# Altium integrated library 常用元件.IntLib: 168 symbols
Pins are listed as number, name and electrical type; pins without a type are passive.

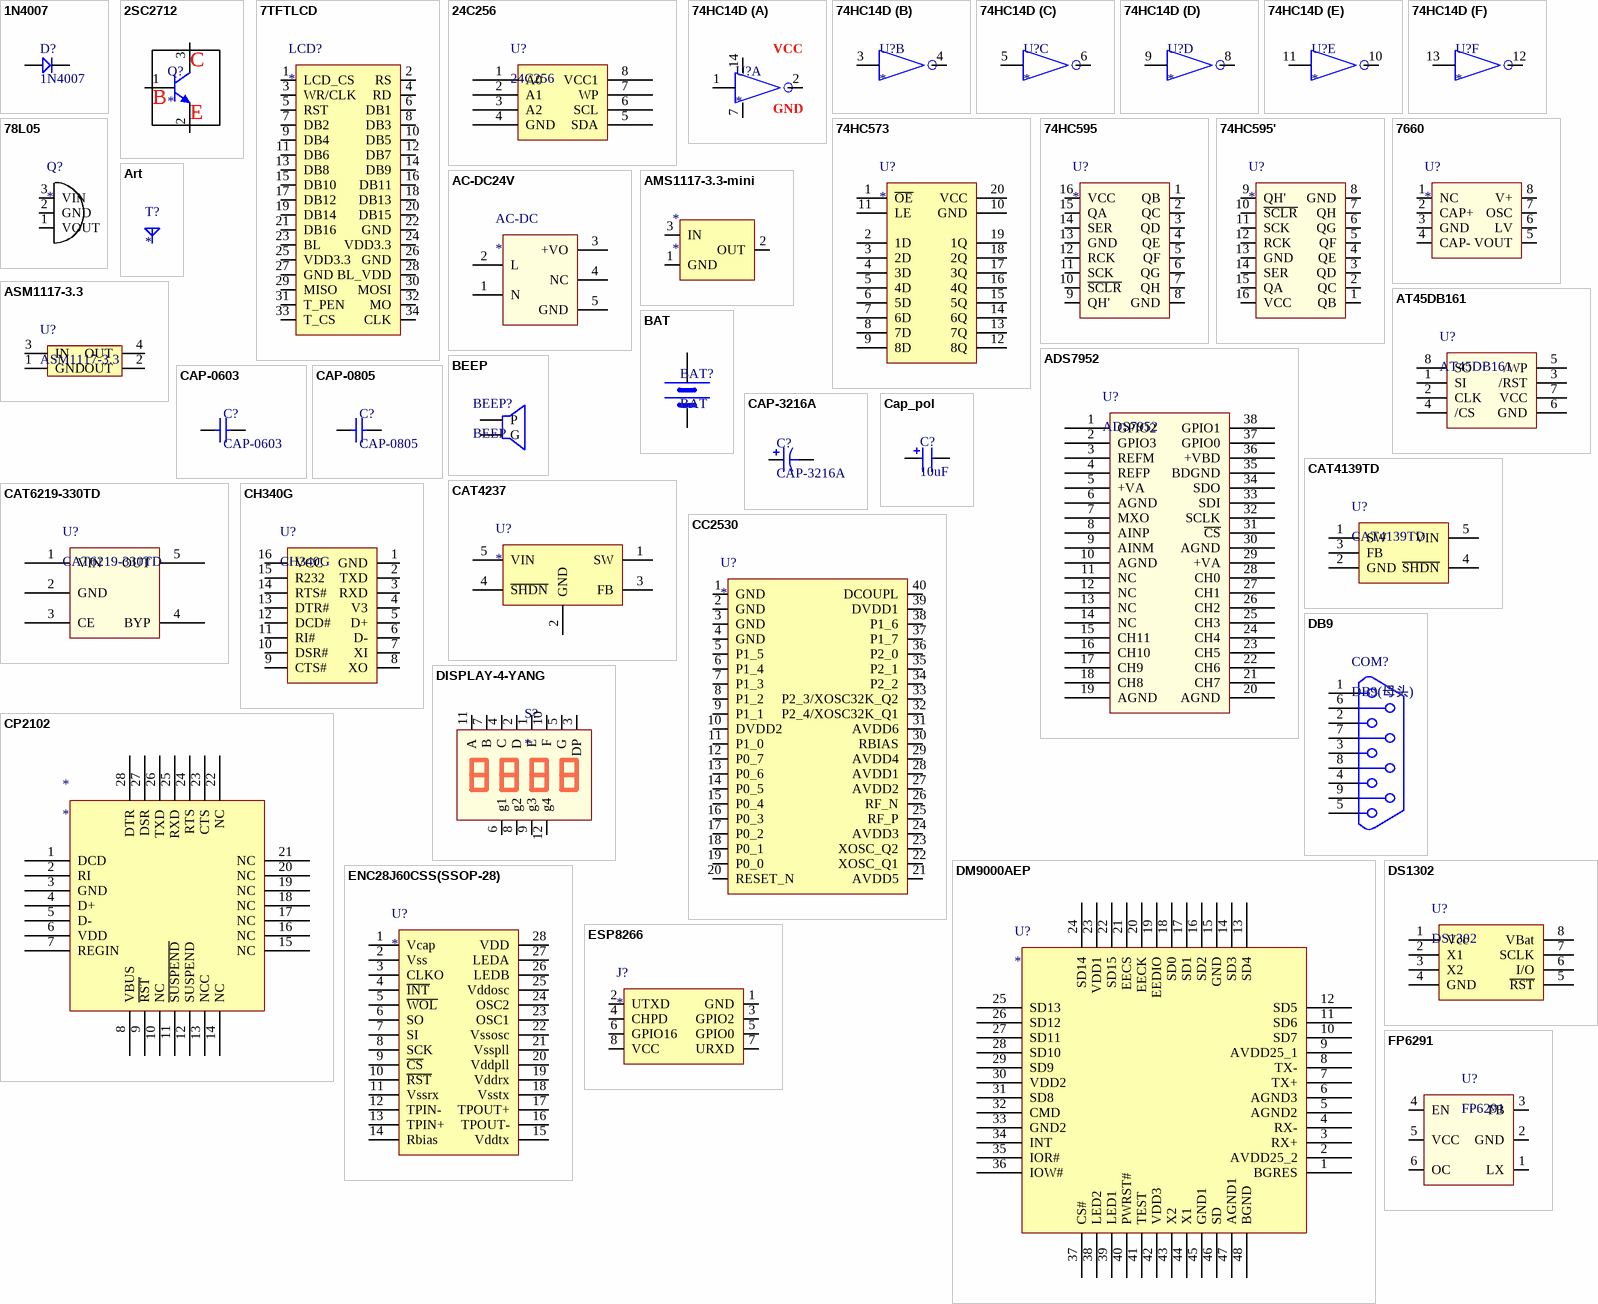
[diagram p0: symbols 1N4007 to FP6291]

## 1N4007
designator D?
footprint SMA
footprint SOD-123
footprint SMA(DO-214AC)
pins: 1, 2

## 2SC2712
designator Q?
footprint SOT-23-3L - duplicate
pins: 1 B, 2 E, 3 C

## 7TFTLCD
designator LCD?
footprint 7-LCD (正点原子7寸电容屏)
pins: 1 LCD_CS, 2 RS, 3 WR/CLK, 4 RD, 5 RST, 6 DB1, 7 DB2, 8 DB3, 9 DB4, 10 DB5, 11 DB6, 12 DB7, 13 DB8, 14 DB9, 15 DB10, 16 DB11, 17 DB12, 18 DB13, 19 DB14, 20 DB15, 21 DB16, 22 GND, 23 BL, 24 VDD3.3, 25 VDD3.3, 26 GND, 27 GND, 28 BL_VDD, 29 MISO, 30 MOSI, 31 T_PEN, 32 MO, 33 T_CS, 34 CLK

## 24C256
designator U?
EEPROM芯片
footprint SOP8
pins: 1 A0, 2 A1, 3 A2, 4 GND, 5 SDA, 6 SCL, 7 WP, 8 VCC1

## 74HC14D
designator U?
施密特反向器
footprint SOIC14_39MM
part A pins: 1, 2, 7 GND, 14 VCC
part B pins: 3, 4
part C pins: 5, 6
part D pins: 8, 9
part E pins: 10, 11
part F pins: 12, 13

## 74HC573
designator U?
锁存器
footprint TSSOP20_44MM_065P
pins: 1 ~{OE}, 2 1D, 3 2D, 4 3D, 5 4D, 6 5D, 7 6D, 8 7D, 9 8D, 10 GND, 11 LE, 12 8Q, 13 7Q, 14 6Q, 15 5Q, 16 4Q, 17 3Q, 18 2Q, 19 1Q, 20 VCC

## 74HC595
designator U?
footprint SOP16M
pins: 1 QB, 2 QC, 3 QD, 4 QE, 5 QF, 6 QG, 7 QH, 8 GND, 9 QH', 10 ~{SCLR}, 11 SCK, 12 RCK, 13 GND, 14 SER, 15 QA, 16 VCC

## 74HC595'
designator U?
footprint SOP16M
pins: 1 QB, 2 QC, 3 QD, 4 QE, 5 QF, 6 QG, 7 QH, 8 GND, 9 QH', 10 ~{SCLR}, 11 SCK, 12 RCK, 13 GND, 14 SER, 15 QA, 16 VCC

## 78L05
designator Q?
pins: 1 VOUT, 2 GND, 3 VIN

## 7660
designator U?
pins: 1 NC, 2 CAP+, 3 GND, 4 CAP-, 5 VOUT, 6 LV, 7 OSC, 8 V+

## AC-DC24V
designator AC-DC
footprint AC-DC24
footprint AC-DC24
pins: 1 N, 2 L, 3 +VO, 4 NC, 5 GND

## ADS7952
designator U?
ADC采集芯片
pins: 1 GPIO2, 2 GPIO3, 3 REFM, 4 REFP, 5 +VA, 6 AGND, 7 MXO, 8 AINP, 9 AINM, 10 AGND, 11 NC, 12 NC, 13 NC, 14 NC, 15 CH11, 16 CH10, 17 CH9, 18 CH8, 19 AGND, 20 AGND, 21 CH7, 22 CH6, 23 CH5, 24 CH4, 25 CH3, 26 CH2, 27 CH1, 28 CH0, 29 +VA, 30 AGND, 31 ~{CS}, 32 SCLK, 33 SDI, 34 SDO, 35 BDGND, 36 +VBD, 37 GPIO0, 38 GPIO1

## AMS1117-3.3-mini
designator *
footprint SOT-89-3L
pins: 1 GND, 2 OUT, 3 IN

## Art
designator T?
天线

## ASM1117-3.3
designator U?
稳压芯片
footprint ASM1117-3.3
pins: 1 GND, 2 OUT, 3 IN, 4 OUT

## AT45DB161
designator U?
FLASH存储芯片
pins: 1 SI, 2 CLK, 3 /RST, 4 /CS, 5 /WP, 6 GND, 7 VCC, 8 SO

## BAT
designator BAT?
CR1220电池座子
footprint BATM (CR1220)
pins: 1 VCC, 2 GND

## BEEP
designator BEEP?
蜂鸣器
footprint BELL-5 (蜂鸣器)
footprint BELL-12 (脚距7.6，外径12的蜂鸣器)
pins: 1 P, 2 G

## CAP-0603
designator C?
电容
footprint 0603C
pins: 1, 2

## CAP-0805
designator C?
电容
footprint 0805C
pins: 1, 2

## CAP-3216A
designator C?
贴片钽电容
footprint CASE-A_3216 (钽电容)
pins: 1, 2

## Cap_pol
designator C?, comment 10uF
直插电解电容
footprint C6*11
footprint C8*12
footprint C10*17
footprint C4*7
footprint 13*20
footprint 5*11
footprint 6.3*12
footprint CAP_4X5.4
footprint CAP_6.3X54
footprint CAP_8X10.5
footprint CASE-A_3216 (钽电容)
footprint CASE-B_3528 (钽电容)
pins: 1, 2

## CAT4139TD
designator U?
背光芯片
pins: 1 SW, 2 GND, 3 FB, 4 ~{SHDN}, 5 VIN

## CAT4237
designator U?
液晶背光电源芯片
footprint SOT-23-5L
pins: 1 SW, 2 GND, 3 FB, 4 ~{SHDN}, 5 VIN

## CAT6219-330TD
designator U?
5V转3.3V
pins: 1 VIN, 2 GND, 3 CE, 4 BYP, 5 OUT

## CC2530
designator U?
CC2530
footprint CC2530
pins: 1 GND, 2 GND, 3 GND, 4 GND, 5 P1_5, 6 P1_4, 7 P1_3, 8 P1_2, 9 P1_1, 10 DVDD2, 11 P1_0, 12 P0_7, 13 P0_6, 14 P0_5, 15 P0_4, 16 P0_3, 17 P0_2, 18 P0_1, 19 P0_0, 20 RESET_N, 21 AVDD5, 22 XOSC_Q1, 23 XOSC_Q2, 24 AVDD3, 25 RF_P, 26 RF_N, 27 AVDD2, 28 AVDD1, 29 AVDD4, 30 RBIAS, 31 AVDD6, 32 P2_4/XOSC32K_Q1, 33 P2_3/XOSC32K_Q2, 34 P2_2, 35 P2_1, 36 P2_0, 37 P1_7, 38 P1_6, 39 DVDD1, 40 DCOUPL

## CH340G
designator U?
USB转串口
footprint SOP16M
pins: 1 GND, 2 TXD, 3 RXD, 4 V3, 5 D+, 6 D-, 7 XI, 8 XO, 9 CTS#, 10 DSR#, 11 RI#, 12 DCD#, 13 DTR#, 14 RTS#, 15 R232, 16 VCC

## CP2102
designator *
pins: 1 DCD, 2 RI, 3 GND, 4 D+, 5 D-, 6 VDD, 7 REGIN, 8 VBUS, 9 ~{RST}, 10 NC, 11 ~{SUSPEND}, 12 SUSPEND, 13 NCC, 14 NC, 15 NC, 16 NC, 17 NC, 18 NC, 19 NC, 20 NC, 21 NC, 22 NC, 23 CTS, 24 RTS, 25 RXD, 26 TXD, 27 DSR, 28 DTR

## DB9
designator COM?, comment DB9(母头)
footprint DB9
pins: 1, 2, 3, 4, 5, 6, 7, 8, 9

## DISPLAY-4-YANG
designator S?
footprint shumaguan-4-0.36
pins: 1 E, 2 D, 3 DP, 4 C, 5 G, 6 g1, 7 B, 8 g2, 9 g3, 10 F, 11 A, 12 g4

## DM9000AEP
designator U?
footprint LQFP48_7X7X05P_L
pins: 1 BGRES, 2 AVDD25_2, 3 RX+, 4 RX-, 5 AGND2, 6 AGND3, 7 TX+, 8 TX-, 9 AVDD25_1, 10 SD7, 11 SD6, 12 SD5, 13 SD4, 14 SD3, 15 GND, 16 SD2, 17 SD1, 18 SD0, 19 EEDIO, 20 EECK, 21 EECS, 22 SD15, 23 VDD1, 24 SD14, 25 SD13, 26 SD12, 27 SD11, 28 SD10, 29 SD9, 30 VDD2, 31 SD8, 32 CMD, 33 GND2, 34 INT, 35 IOR#, 36 IOW#, 37 CS#, 38 LED2, 39 LED1, 40 PWRST#, 41 TEST, 42 VDD3, 43 X2, 44 X1, 45 GND1, 46 SD, 47 AGND1, 48 BGND

## DS1302
designator U?
DS1302时钟芯片
footprint SOP8
pins: 1 Vcc, 2 X1, 3 X2, 4 GND, 5 ~{RST}, 6 I/O, 7 SCLK, 8 VBat

## ENC28J60CSS(SSOP-28)
designator U?
10M以太网芯片
footprint ENC28J60-SSOP28_5.3MM
pins: 1 Vcap, 2 Vss, 3 CLKO, 4 ~{INT}, 5 ~{WOL}, 6 SO, 7 SI, 8 SCK, 9 ~{CS}, 10 ~{RST}, 11 Vssrx, 12 TPIN-, 13 TPIN+, 14 Rbias, 15 Vddtx, 16 TPOUT-, 17 TPOUT+, 18 Vsstx, 19 Vddrx, 20 Vddpll, 21 Vsspll, 22 Vssosc, 23 OSC1, 24 OSC2, 25 Vddosc, 26 LEDB, 27 LEDA, 28 VDD

## ESP8266
designator J?
footprint NRF24L01
pins: 1 GND, 2 UTXD, 3 GPIO2, 4 CHPD, 5 GPIO0, 6 GPIO16, 7 URXD, 8 VCC

## FP6291
designator U?
footprint SOT-23-6L
pins: 1 LX, 2 GND, 3 FB, 4 EN, 5 VCC, 6 OC

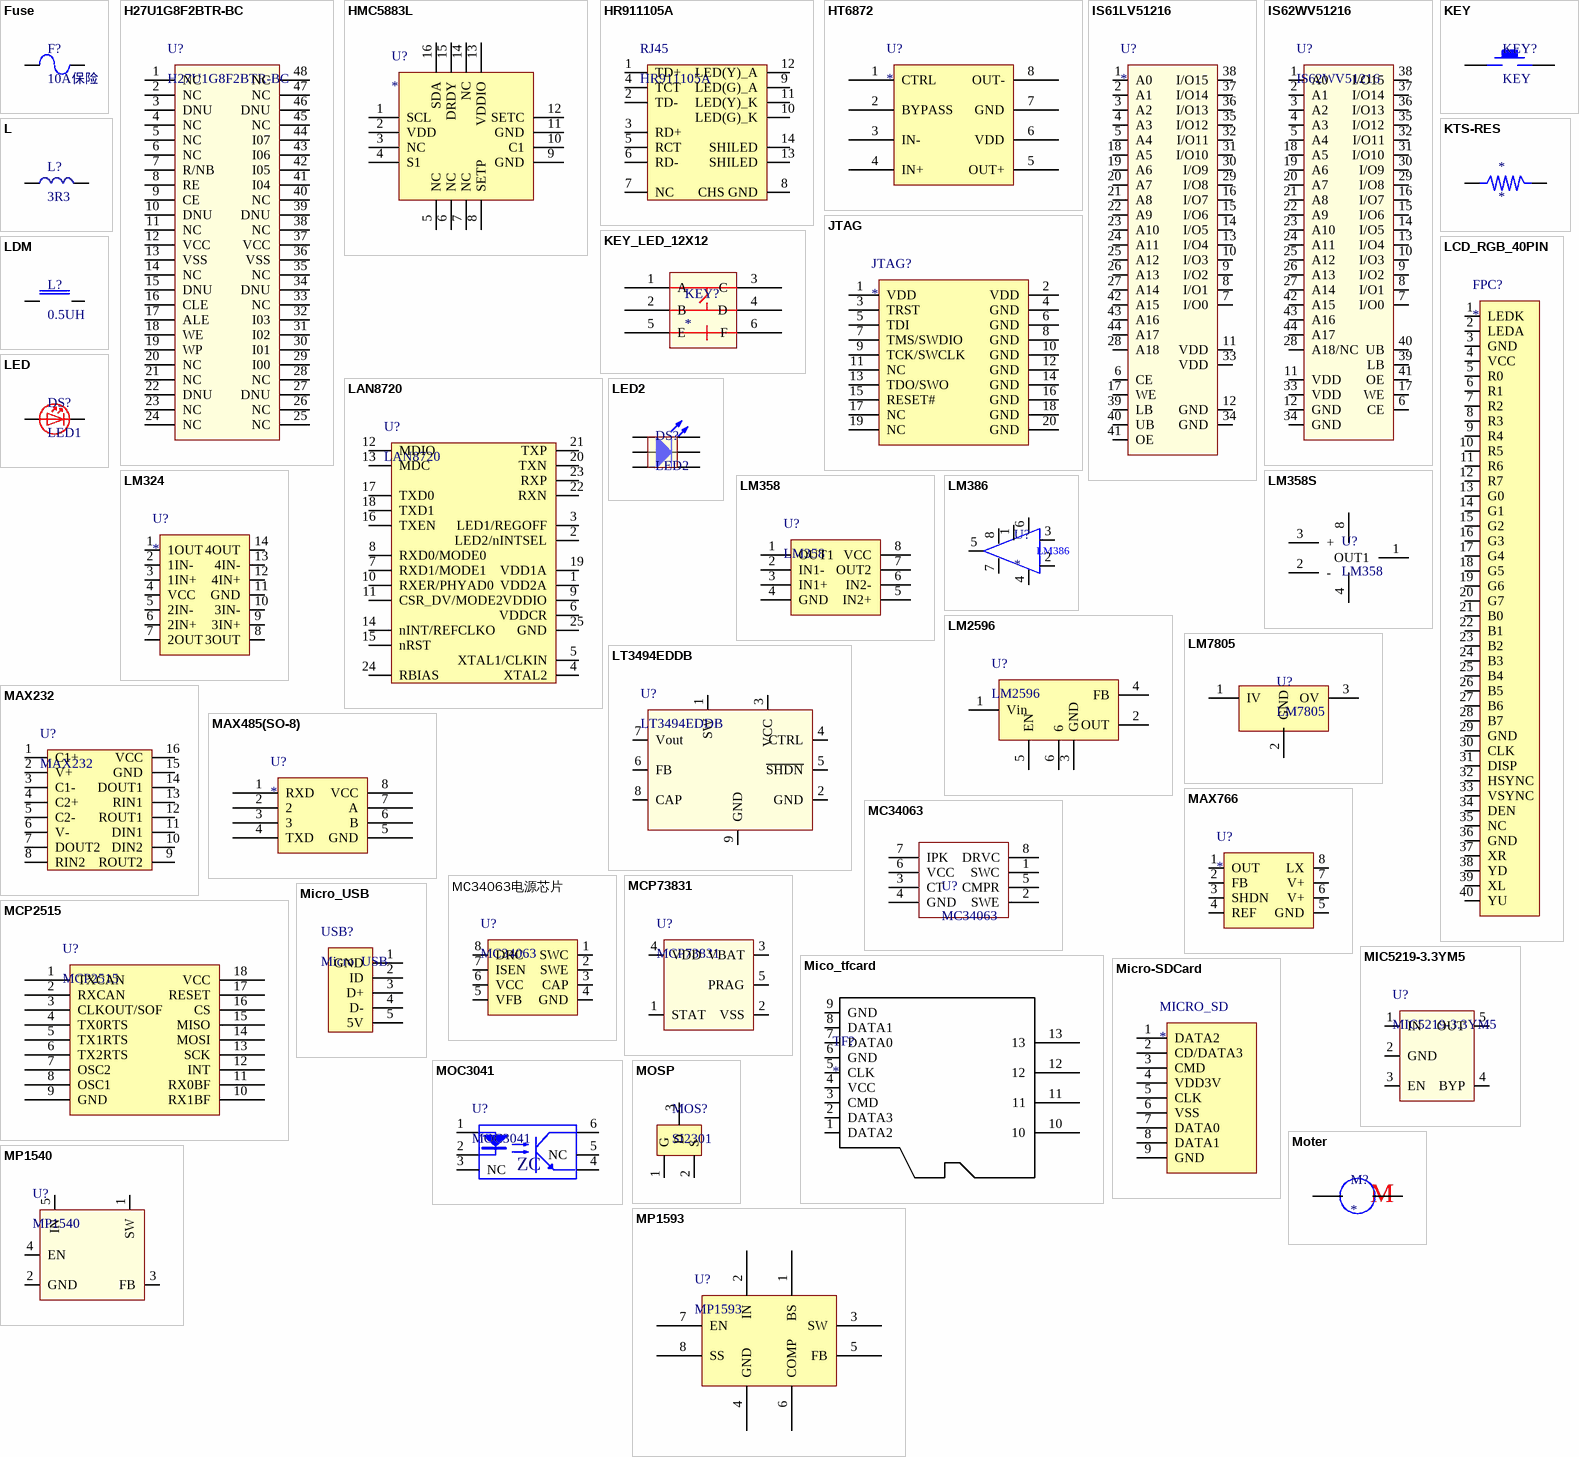
[diagram p1: symbols Fuse to MP1593]

## Fuse
designator F?, comment 10A保险
footprint FUSE (5A保险丝)
footprint BXS-5MM
footprint BXS-10MM
footprint BXS-15MM
pins: 1, 2

## H27U1G8F2BTR-BC
designator U?
128M字节Nand Flash
footprint TSOP48
footprint TSOP48
pins: 1 NC, 2 NC, 3 DNU, 4 NC, 5 NC, 6 NC, 7 R/NB, 8 RE, 9 CE, 10 DNU, 11 NC, 12 VCC, 13 VSS, 14 NC, 15 DNU, 16 CLE, 17 ALE, 18 WE, 19 WP, 20 NC, 21 NC, 22 DNU, 23 NC, 24 NC, 25 NC, 26 NC, 27 DNU, 28 NC, 29 I00, 30 I01, 31 I02, 32 I03, 33 NC, 34 DNU, 35 NC, 36 VSS, 37 VCC, 38 NC, 39 DNU, 40 NC, 41 I04, 42 I05, 43 I06, 44 I07, 45 NC, 46 DNU, 47 NC, 48 NC

## HMC5883L
designator U?
磁力传感器
footprint HMC5883L
pins: 1 SCL, 2 VDD, 3 NC, 4 S1, 5 NC, 6 NC, 7 NC, 8 SETP, 9 GND, 10 C1, 11 GND, 12 SETC, 13 VDDIO, 14 NC, 15 DRDY, 16 SDA

## HR911105A
designator RJ45
footprint HR911105A
pins: 1 TD+, 2 TD-, 3 RD+, 4 TCT, 5 RCT, 6 RD-, 7 NC, 8 CHS GND, 9 LED(G)_A, 10 LED(G)_K, 11 LED(Y)_K, 12 LED(Y)_A, 13 SHILED, 14 SHILED

## HT6872
designator U?
D类功放
pins: 1 CTRL, 2 BYPASS, 3 IN-, 4 IN+, 5 OUT+, 6 VDD, 7 GND, 8 OUT-

## IS61LV51216
designator U?
SRAM芯片
footprint TSOP44
pins: 1 A0, 2 A1, 3 A2, 4 A3, 5 A4, 6 CE, 7 I/O0, 8 I/O1, 9 I/O2, 10 I/O3, 11 VDD, 12 GND, 13 I/O4, 14 I/O5, 15 I/O6, 16 I/O7, 17 WE, 18 A5, 19 A6, 20 A7, 21 A8, 22 A9, 23 A10, 24 A11, 25 A12, 26 A13, 27 A14, 28 A18, 29 I/O8, 30 I/O9, 31 I/O10, 32 I/O11, 33 VDD, 34 GND, 35 I/O12, 36 I/O13, 37 I/O14, 38 I/O15, 39 LB, 40 UB, 41 OE, 42 A15, 43 A16, 44 A17

## IS62WV51216
designator U?
SRAM芯片
footprint TSOP44
footprint Model Name (Footprint not found)
pins: 1 A0, 2 A1, 3 A2, 4 A3, 5 A4, 6 CE, 7 I/O0, 8 I/O1, 9 I/O2, 10 I/O3, 11 VDD, 12 GND, 13 I/O4, 14 I/O5, 15 I/O6, 16 I/O7, 17 WE, 18 A5, 19 A6, 20 A7, 21 A8, 22 A9, 23 A10, 24 A11, 25 A12, 26 A13, 27 A14, 28 A18/NC, 29 I/O8, 30 I/O9, 31 I/O10, 32 I/O11, 33 VDD, 34 GND, 35 I/O12, 36 I/O13, 37 I/O14, 38 I/O15, 39 LB, 40 UB, 41 OE, 42 A15, 43 A16, 44 A17

## JTAG
designator JTAG?
footprint JTAG-20 (卧式JTAG接口)
pins: 1 VDD, 2 VDD, 3 TRST, 4 GND, 5 TDI, 6 GND, 7 TMS/SWDIO, 8 GND, 9 TCK/SWCLK, 10 GND, 11 NC, 12 GND, 13 TDO/SWO, 14 GND, 15 RESET#, 16 GND, 17 NC, 18 GND, 19 NC, 20 GND

## KEY
designator KEY?
footprint Key
footprint KEY_3X6X2.5 (两只脚贴片轻触按键)
pins: 1, 2

## KEY_LED_12X12
designator KEY?
footprint KEY_LED_12X12
pins: 1 A, 2 B, 3 C, 4 D, 5 E, 6 F

## KTS-RES
designator *
footprint RES-L100-D0.8 (康铜丝电阻，长100mm，粗0.8mm)
pins: 1 LX, 2 LX

## L
designator L?, comment 3R3
footprint L-SOP74 (带屏蔽功率电感)
footprint L-SOP127
footprint 0603P
footprint 1206L
footprint 7*7MM (电感7X7MM)
footprint GDCD4532
footprint SWPA_3015
footprint SWPA_4012
footprint GDNR5040
footprint 4018L (电感封装)
pins: 1, 2

## LAN8720
designator U?
footprint QFN24
pins: 1 VDD2A, 2 LED2/nINTSEL, 3 LED1/REGOFF, 4 XTAL2, 5 XTAL1/CLKIN, 6 VDDCR, 7 RXD1/MODE1, 8 RXD0/MODE0, 9 VDDIO, 10 RXER/PHYAD0, 11 CSR_DV/MODE2, 12 MDIO, 13 MDC, 14 nINT/REFCLKO, 15 nRST, 16 TXEN, 17 TXD0, 18 TXD1, 19 VDD1A, 20 TXN, 21 TXP, 22 RXN, 23 RXP, 24 RBIAS, 25 GND

## LCD_RGB_40PIN
designator FPC?
footprint FPC40P_0.5MM
pins: 1 LEDK, 2 LEDA, 3 GND, 4 VCC, 5 R0, 6 R1, 7 R2, 8 R3, 9 R4, 10 R5, 11 R6, 12 R7, 13 G0, 14 G1, 15 G2, 16 G3, 17 G4, 18 G5, 19 G6, 20 G7, 21 B0, 22 B1, 23 B2, 24 B3, 25 B4, 26 B5, 27 B6, 28 B7, 29 GND, 30 CLK, 31 DISP, 32 HSYNC, 33 VSYNC, 34 DEN, 35 NC, 36 GND, 37 XR, 38 YD, 39 XL, 40 YU

## LDM
designator L?, comment 0.5UH
棒形电感
footprint LDM5*12_D1.2
pins: 1 0, 2 1

## LED
designator DS?, comment LED1
footprint LED1
footprint LED_0805
pins: 1, 2

## LED2
designator DS?
LED
footprint 5050 (贴片LED灯)
pins: 1 A, 2 K, 3, 4, 5, 6

## LM324
designator U?
pins: 1 1OUT, 2 1IN-, 3 1IN+, 4 VCC, 5 2IN-, 6 2IN+, 7 2OUT, 8 3OUT, 9 3IN+, 10 3IN-, 11 GND, 12 4IN+, 13 4IN-, 14 4OUT

## LM358
designator U?
footprint SOP8
pins: 1 OUT1, 2 IN1-, 3 IN1+, 4 GND, 5 IN2+, 6 IN2-, 7 OUT2, 8 VCC

## LM358S
designator U?, comment LM358
footprint SOP8
pins: 1 OUT1, 2 -, 3 +, 4 GND, 8 VCC

## LM386
designator U?
功放芯片
footprint LM386 (功放芯片)
pins: 1, 2, 3, 4, 5, 6, 7, 8

## LM2596
designator U?
降压模块
footprint TO-263
pins: 1 Vin, 2 OUT, 3 GND, 4 FB, 5 EN, 6

## LM7805
designator U?
footprint 7805 (插件7805)
pins: 1 IV, 2 GND, 3 OV

## LT3494EDDB
designator U?
footprint LT3494EDDB (DFN-8_3X2MM)
pins: 1 SW, 2 GND, 3 VCC, 4 CTRL, 5 ~{SHDN}, 6 FB, 7 Vout, 8 CAP, 9 GND

## MAX232
designator U?
footprint SOP16M
pins: 1 C1+, 2 V+, 3 C1-, 4 C2+, 5 C2-, 6 V-, 7 DOUT2, 8 RIN2, 9 ROUT2, 10 DIN2, 11 DIN1, 12 ROUT1, 13 RIN1, 14 DOUT1, 15 GND, 16 VCC

## MAX485(SO-8)
designator U?
footprint SOP8
pins: 1 RXD, 2, 3, 4 TXD, 5 GND, 6 B, 7 A, 8 VCC

## MAX766
designator U?
-15V电源芯片
pins: 1 OUT, 2 FB, 3 SHDN, 4 REF, 5 GND, 6 V+, 7 V+, 8 LX

## MC34063
designator U?
footprint SOP8
pins: 1 SWC, 2 SWE, 3 CT, 4 GND, 5 CMPR, 6 VCC, 7 IPK, 8 DRVC

## MC34063电源芯片
designator U?, comment MC34063
footprint SOP8
pins: 1 SWC, 2 SWE, 3 CAP, 4 GND, 5 VFB, 6 VCC, 7 ISEN, 8 DRC

## MCP2515
designator U?
pins: 1 TXCAN, 2 RXCAN, 3 CLKOUT/SOF, 4 TX0RTS, 5 TX1RTS, 6 TX2RTS, 7 OSC2, 8 OSC1, 9 GND, 10 RX1BF, 11 RX0BF, 12 INT, 13 SCK, 14 MOSI, 15 MISO, 16 CS, 17 RESET, 18 VCC

## MCP73831
designator U?
pins: 1 STAT, 2 VSS, 3 VBAT, 4 VDD, 5 PRAG

## MIC5219-3.3YM5
designator U?
5V转3.3V 500mA峰值，低压差线性稳压芯片
footprint SOT-23-5L
pins: 1 IN, 2 GND, 3 EN, 4 BYP, 5 OUT

## Mico_tfcard
designator TF?
footprint Micro_SDCard
pins: 1 DATA2, 2 DATA3, 3 CMD, 4 VCC, 5 CLK, 6 GND, 7 DATA0, 8 DATA1, 9 GND, 10, 11, 12, 13

## Micro-SDCard
designator MICRO_SD
footprint Micro_SDCard
pins: 1 DATA2, 2 CD/DATA3, 3 CMD, 4 VDD3V, 5 CLK, 6 VSS, 7 DATA0, 8 DATA1, 9 GND

## Micro_USB
designator USB?
footprint Micro_USB (手机USB座子)
pins: 1 GND, 2 ID, 3 D+, 4 D-, 5 5V

## MOC3041
designator U?
footprint MOC3041
pins: 1 LED Anode, 2 LED Cathode, 3 NC, 4 Emitter, 5 NC, 6 Collector
text: ZC

## MOSP
designator MOS?, comment SI2301
footprint SOG3
pins: 1 G, 2 S, 3 D

## Moter
designator M?
电机接口
pins: 1, 2
text: M

## MP1540
designator U?
footprint SOIC-8_PWR
pins: 1 SW, 2 GND, 3 FB, 4 EN, 5 IN

## MP1593
designator U?
footprint SOIC-8_PWR
pins: 1 BS, 2 IN, 3 SW, 4 GND, 5 FB, 6 COMP, 7 EN, 8 SS

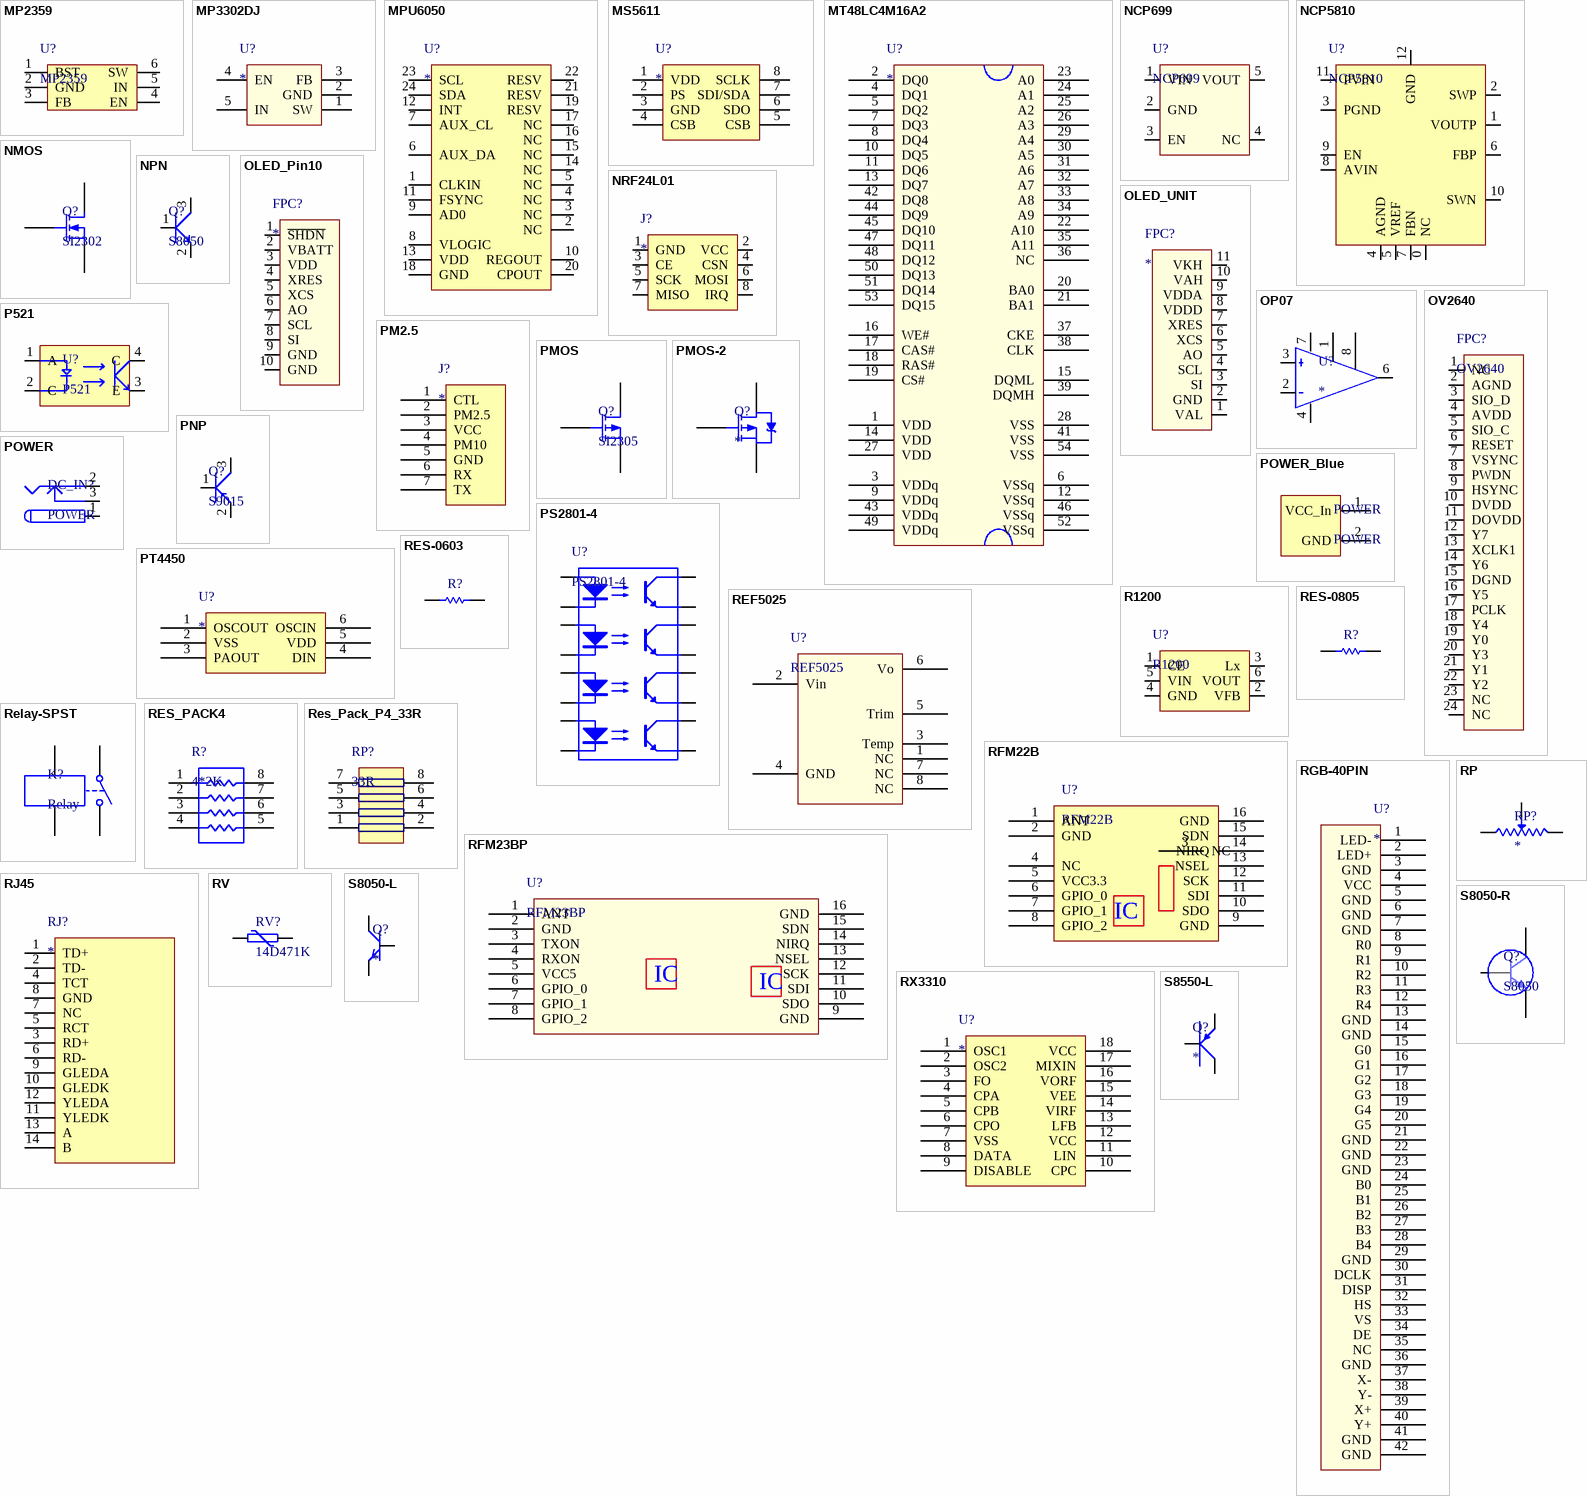
[diagram p2: symbols MP2359 to S8550-L]

## MP2359
designator U?
footprint MOT23-6
footprint SOT-23-6
pins: 1 BST, 2 GND, 3 FB, 4 EN, 5 IN, 6 SW

## MP3302DJ
designator U?
footprint SOT-23-5L
pins: 1 SW, 2 GND, 3 FB, 4 EN, 5 IN

## MPU6050
designator U?
9轴运动处理传感器
footprint QFN24 - duplicate
footprint QFN-24_4X4X05P
pins: 1 CLKIN, 2 NC, 3 NC, 4 NC, 5 NC, 6 AUX_DA, 7 AUX_CL, 8 VLOGIC, 9 AD0, 10 REGOUT, 11 FSYNC, 12 INT, 13 VDD, 14 NC, 15 NC, 16 NC, 17 NC, 18 GND, 19 RESV, 20 CPOUT, 21 RESV, 22 RESV, 23 SCL, 24 SDA

## MS5611
designator U?
气压传感器
footprint QFN-8_5X3MM
pins: 1 VDD, 2 PS, 3 GND, 4 CSB, 5 CSB, 6 SDO, 7 SDI/SDA, 8 SCLK

## MT48LC4M16A2
designator U?
16位64Mb SDRAM
footprint TSOP-54
pins: 1 VDD, 2 DQ0, 3 VDDq, 4 DQ1, 5 DQ2, 6 VSSq, 7 DQ3, 8 DQ4, 9 VDDq, 10 DQ5, 11 DQ6, 12 VSSq, 13 DQ7, 14 VDD, 15 DQML, 16 WE#, 17 CAS#, 18 RAS#, 19 CS#, 20 BA0, 21 BA1, 22 A10, 23 A0, 24 A1, 25 A2, 26 A3, 27 VDD, 28 VSS, 29 A4, 30 A5, 31 A6, 32 A7, 33 A8, 34 A9, 35 A11, 36 NC, 37 CKE, 38 CLK, 39 DQMH, 40 NC hidden, 41 VSS, 42 DQ8, 43 VDDq, 44 DQ9, 45 DQ10, 46 VSSq, 47 DQ11, 48 DQ12, 49 VDDq, 50 DQ13, 51 DQ14, 52 VSSq, 53 DQ15, 54 VSS

## NCP699
designator U?
pins: 1 VIN, 2 GND, 3 EN, 4 NC, 5 VOUT

## NCP5810
designator U?
pins: 0 NC, 1 VOUTP, 2 SWP, 3 PGND, 4 AGND, 5 VREF, 6 FBP, 7 FBN, 8 AVIN, 9 EN, 10 SWN, 11 PVIN, 12 GND

## NMOS
designator Q?, comment SI2302
N沟道增强型
footprint TO252
pins: 1 G, 2 D, 3 S

## NPN
designator Q?, comment S8050
footprint SOT23A (S9015(M6)、S8050(J3Y))
pins: 1 B, 2 E, 3 C

## NRF24L01
designator J?
footprint NRF24L01
pins: 1 GND, 2 VCC, 3 CE, 4 CSN, 5 SCK, 6 MOSI, 7 MISO, 8 IRQ

## OLED_Pin10
designator FPC?
footprint FPC_10Pin_1MM
pins: 1 ~{SHDN}, 2 VBATT, 3 VDD, 4 XRES, 5 XCS, 6 AO, 7 SCL, 8 SI, 9 GND, 10 GND

## OLED_UNIT
designator FPC?
footprint 0.3MM_11Pin
pins: 1 VAL, 2 GND, 3 SI, 4 SCL, 5 AO, 6 XCS, 7 XRES, 8 VDDD, 9 VDDA, 10 VAH, 11 VKH

## OP07
designator U?
精密运算放大器
footprint SOIC8_39MM
footprint SOIC8_39MM
pins: 1, 2, 3, 4, 5 hidden, 6, 7, 8

## OV2640
designator FPC?
pins: 1 NC, 2 AGND, 3 SIO_D, 4 AVDD, 5 SIO_C, 6 RESET, 7 VSYNC, 8 PWDN, 9 HSYNC, 10 DVDD, 11 DOVDD, 12 Y7, 13 XCLK1, 14 Y6, 15 DGND, 16 Y5, 17 PCLK, 18 Y4, 19 Y0, 20 Y3, 21 Y1, 22 Y2, 23 NC, 24 NC

## P521
designator U?
footprint PLT521
pins: 1 A, 2 C, 3 E, 4 C

## PM2.5
designator J?
pins: 1 CTL, 2 PM2.5, 3 VCC, 4 PM10, 5 GND, 6 RX, 7 TX

## PMOS
designator Q?, comment SI2305
P沟道增强型
pins: 1 G, 2 S, 3 D

## PMOS-2
designator Q?
P-Channel Power MOSFET
pins: 1 G, 2 D, 3 S

## PNP
designator Q?, comment S9015
footprint SOT23A (S9015(M6)、S8050(J3Y))
pins: 1 B, 2 E, 3 C

## POWER
designator DC_IN?
POW
footprint PWR
pins: 1 (power), 2 (power), 3 (power)

## POWER_Blue
designator POWER, comment POWER
footprint POWER_Blue (5.08蓝色供电座子)
pins: 1 VCC_In, 2 GND

## PS2801-4
designator U?
footprint PS2801-4
pins: 1 LED Anode, 2 LED Cathode, 3 LED Anode, 4 LED Cathode, 5 LED Anode, 6 LED Cathode, 7 LED Anode, 8 LED Cathode, 9 Emitter, 10 Collector, 11 Emitter, 12 Collector, 13 Emitter, 14 Collector, 15 Emitter, 16 Collector

## PT4450
designator U?
无线发射芯片
pins: 1 OSCOUT, 2 VSS, 3 PAOUT, 4 DIN, 5 VDD, 6 OSCIN

## R1200
designator U?
pins: 1 CE, 2 VFB, 3 Lx, 4 GND, 5 VIN, 6 VOUT

## REF5025
designator U?
基准源芯片
pins: 1 NC, 2 Vin, 3 Temp, 4 GND, 5 Trim, 6 Vo, 7 NC, 8 NC

## Relay-SPST
designator K?, comment Relay
footprint Relay-SPST (4个脚的继电器)
pins: 1, 2, 3, 4

## RES-0603
designator R?
Resistance
footprint 0603R
pins: 1, 2

## RES-0805
designator R?
Resistance
footprint 0805R
pins: 1, 2

## RES_PACK4
designator R?, comment 4*2K
footprint RES_PACK4
footprint RES_PAKGE4
pins: 1, 2, 3, 4, 5, 6, 7, 8

## Res_Pack_P4_33R
designator RP?, comment 33R
footprint Res_Pack_P4_0603
pins: 1, 2, 3, 4, 5, 6, 7, 8

## RFM22B
designator U?
433MHz无线模块
footprint RFM22BP
pins: 1 ANT, 2 GND, 3 NC, 4 NC, 5 VCC3.3, 6 GPIO_0, 7 GPIO_1, 8 GPIO_2, 9 GND, 10 SDO, 11 SDI, 12 SCK, 13 NSEL, 14 NIRQ, 15 SDN, 16 GND
text: IC

## RFM23BP
designator U?
1W 433MHz无线模块
footprint RFM23BP (1W 433MHz数传)
pins: 1 ANT, 2 GND, 3 TXON, 4 RXON, 5 VCC5, 6 GPIO_0, 7 GPIO_1, 8 GPIO_2, 9 GND, 10 SDO, 11 SDI, 12 SCK, 13 NSEL, 14 NIRQ, 15 SDN, 16 GND
text: IC

## RGB-40PIN
designator U?
40P通用液晶屏接口
footprint FPC40P_0.5MM
pins: 1 LED-, 2 LED+, 3 GND, 4 VCC, 5 GND, 6 GND, 7 GND, 8 R0, 9 R1, 10 R2, 11 R3, 12 R4, 13 GND, 14 GND, 15 G0, 16 G1, 17 G2, 18 G3, 19 G4, 20 G5, 21 GND, 22 GND, 23 GND, 24 B0, 25 B1, 26 B2, 27 B3, 28 B4, 29 GND, 30 DCLK, 31 DISP, 32 HS, 33 VS, 34 DE, 35 NC, 36 GND, 37 X-, 38 Y-, 39 X+, 40 Y+, 41 GND, 42 GND

## RJ45
designator RJ?
网络变压器
pins: 1 TD+, 2 TD-, 3 RD+, 4 TCT, 5 RCT, 6 RD-, 7 NC, 8 GND, 9 GLEDA, 10 GLEDK, 11 YLEDK, 12 YLEDA, 13 A, 14 B

## RP
designator RP?
可调电阻
footprint ZX-6X6MM (直插可调电阻)
footprint RP-LS (立式滑动变阻器)
footprint VR-3296W
pins: 1, 2, 3

## RV
designator RV?, comment 14D471K
压敏电阻
footprint 14D471K (压敏电阻)
footprint 14D471K (压敏电阻)
pins: 1 2, 2 3

## RX3310
designator U?
无线接收芯片
pins: 1 OSC1, 2 OSC2, 3 FO, 4 CPA, 5 CPB, 6 CPO, 7 VSS, 8 DATA, 9 DISABLE, 10 CPC, 11 LIN, 12 VCC, 13 LFB, 14 VIRF, 15 VEE, 16 VORF, 17 MIXIN, 18 VCC

## S8050-L
designator Q?
NPN三极管
footprint SOT23A (S9015(M6)、S8050(J3Y))
pins: 1, 2, 3

## S8050-R
designator Q?, comment S8050
pins: 1 B, 2 E, 3 C

## S8550-L
designator Q?
PNP三极管
pins: 1, 2, 3

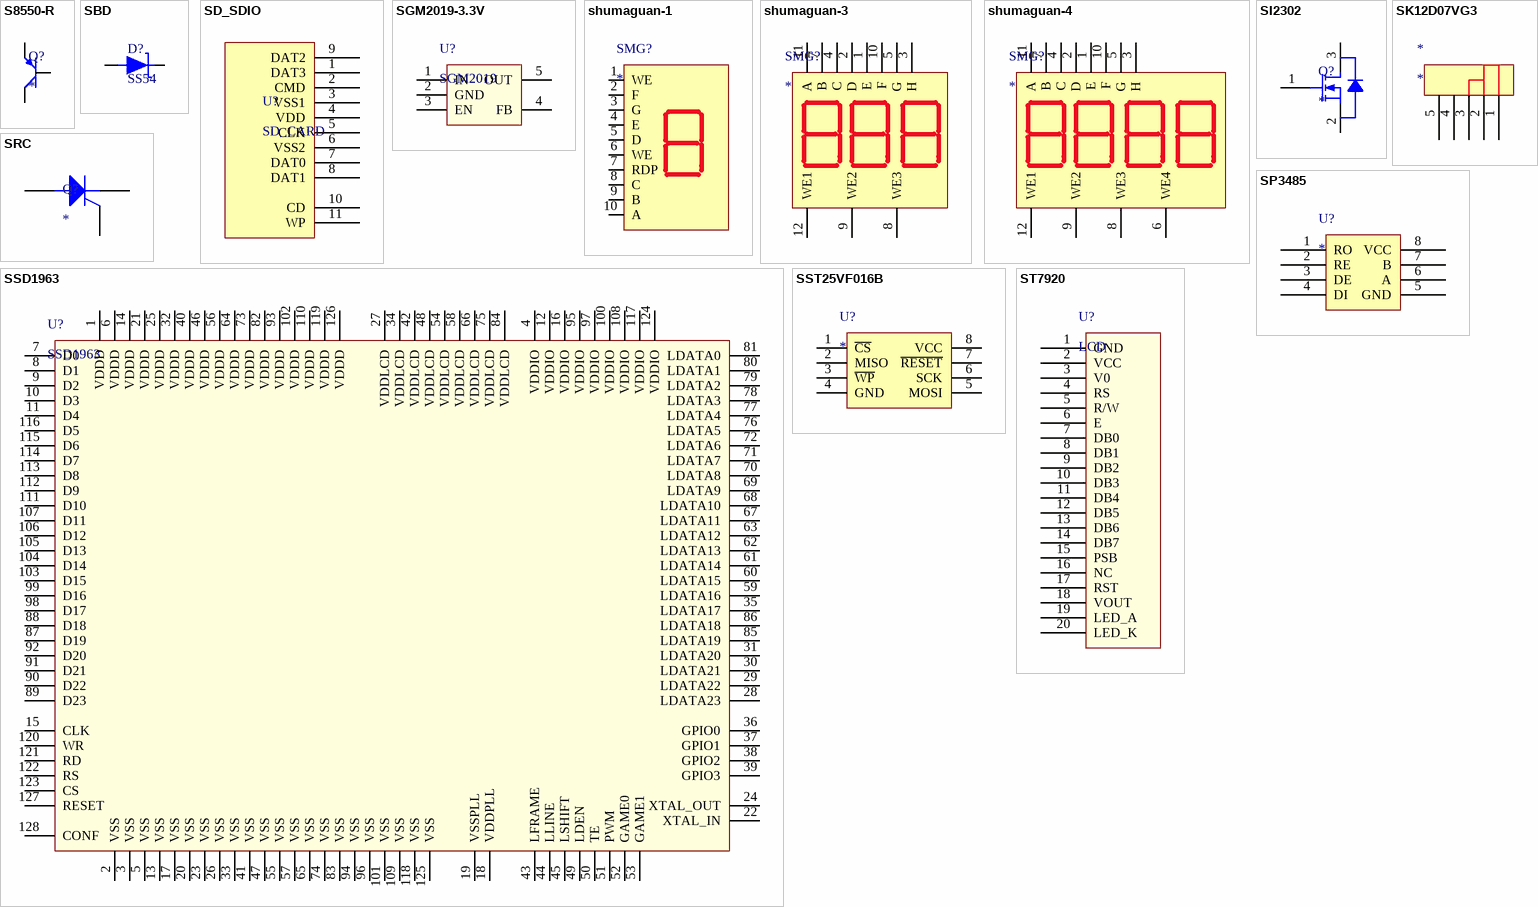
[diagram p3: symbols S8550-R to ST7920]

## S8550-R
designator Q?
PNP三极管
footprint SOT23A (S9015(M6)、S8050(J3Y))
pins: 1, 2, 3

## SBD
designator D?, comment SS54
肖特基二极管
footprint SMA
footprint SMC (SS54)
footprint DIODE_3*5.3
pins: 1, 2

## SD_SDIO
designator U?, comment SD_CARD
footprint SD_L
pins: 1 DAT3, 2 CMD, 3 VSS1, 4 VDD, 5 CLK, 6 VSS2, 7 DAT0, 8 DAT1, 9 DAT2, 10 CD, 11 WP

## SGM2019-3.3V
designator U?, comment SGM2019
3.3V-SOT23-5稳压芯片
footprint SOT-23-5L
footprint Model Name (Footprint not found)
pins: 1 IN, 2 GND, 3 EN, 4 FB, 5 OUT

## shumaguan-1
designator SMG?
footprint shumaguan-1 (0.36英寸)
pins: 1 WE, 2 F, 3 G, 4 E, 5 D, 6 WE, 7 RDP, 8 C, 9 B, 10 A

## shumaguan-3
designator SMG?
footprint shumaguan-0.8-3
footprint shumaguan-0.8-3
pins: 1 E, 2 D, 3 H, 4 C, 5 G, 7 B, 8 WE3, 9 WE2, 10 F, 11 A, 12 WE1

## shumaguan-4
designator SMG?
footprint shumaguan-0.8-4
footprint Model Name (Footprint not found)
pins: 1 E, 2 D, 3 H, 4 C, 5 G, 6 WE4, 7 B, 8 WE3, 9 WE2, 10 F, 11 A, 12 WE1

## SI2302
designator Q?
N-Channel 20V
footprint SOT-23-3L
footprint SOT-23-3L
pins: 1 G, 2 S, 3 D

## SK12D07VG3
designator *
拨动开关
footprint SK12D07VG3
pins: 1 49, 2 50, 3 51, 4 52, 5 53

## SP3485
designator U?
485芯片
pins: 1 RO, 2 RE, 3 DE, 4 DI, 5 GND, 6 A, 7 B, 8 VCC

## SRC
designator Q?
Silicon Controlled Rectifier
pins: 1 A, 2 G, 3 K

## SSD1963
designator U?
footprint LQFP-128_14X14X04P
footprint Model Name (Footprint not found)
pins: 1 VDDD, 2 VSS, 3 VSS, 4 VDDIO, 5 VSS, 6 VDDD, 7 D0, 8 D1, 9 D2, 10 D3, 11 D4, 12 VDDIO, 13 VSS, 14 VDDD, 15 CLK, 16 VDDIO, 17 VSS, 18 VDDPLL, 19 VSSPLL, 20 VSS, 21 VDDD, 22 XTAL_IN, 23 VSS, 24 XTAL_OUT, 25 VDDD, 26 VSS, 27 VDDLCD, 28 LDATA23, 29 LDATA22, 30 LDATA21, 31 LDATA20, 32 VDDD, 33 VSS, 34 VDDLCD, 35 LDATA17, 36 GPIO0, 37 GPIO1, 38 GPIO2, 39 GPIO3, 40 VDDD, 41 VSS, 42 VDDLCD, 43 LFRAME, 44 LLINE, 45 LSHIFT, 46 VDDD, 47 VSS, 48 VDDLCD, 49 LDEN, 50 TE, 51 PWM, 52 GAME0, 53 GAME1, 54 VDDLCD, 55 VSS, 56 VDDD, 57 VSS, 58 VDDLCD, 59 LDATA16, 60 LDATA15, 61 LDATA14, 62 LDATA13, 63 LDATA12, 64 VDDD, 65 VSS, 66 VDDLCD, 67 LDATA11, 68 LDATA10, 69 LDATA9, 70 LDATA8, 71 LDATA7, 72 LDATA6, 73 VDDD, 74 VSS, 75 VDDLCD, 76 LDATA5, 77 LDATA4, 78 LDATA3, 79 LDATA2, 80 LDATA1, 81 LDATA0, 82 VDDD, 83 VSS, 84 VDDLCD, 85 LDATA19, 86 LDATA18, 87 D19, 88 D18, 89 D23, 90 D22, 91 D21, 92 D20, 93 VDDD, 94 VSS, 95 VDDIO, 96 VSS, 97 VDDIO, 98 D17, 99 D16, 100 VDDIO, 101 VSS, 102 VDDD, 103 D15, 104 D14, 105 D13, 106 D12, 107 D11, 108 VDDIO, 109 VSS, 110 VDDD, 111 D10, 112 D9, 113 D8, 114 D7, 115 D6, 116 D5, 117 VDDIO, 118 VSS, 119 VDDD, 120 WR, 121 RD, 122 RS, 123 CS, 124 VDDIO, 125 VSS, 126 VDDD, 127 RESET, 128 CONF

## SST25VF016B
designator U?
FLASH
pins: 1 ~{CS}, 2 MISO, 3 ~{WP}, 4 GND, 5 MOSI, 6 SCK, 7 ~{RESET}, 8 VCC

## ST7920
designator U?, comment LCD
ST7920_12864液晶屏
footprint ST7920_12864
pins: 1 GND, 2 VCC, 3 V0, 4 RS, 5 R/W, 6 E, 7 DB0, 8 DB1, 9 DB2, 10 DB3, 11 DB4, 12 DB5, 13 DB6, 14 DB7, 15 PSB, 16 NC, 17 RST, 18 VOUT, 19 LED_A, 20 LED_K

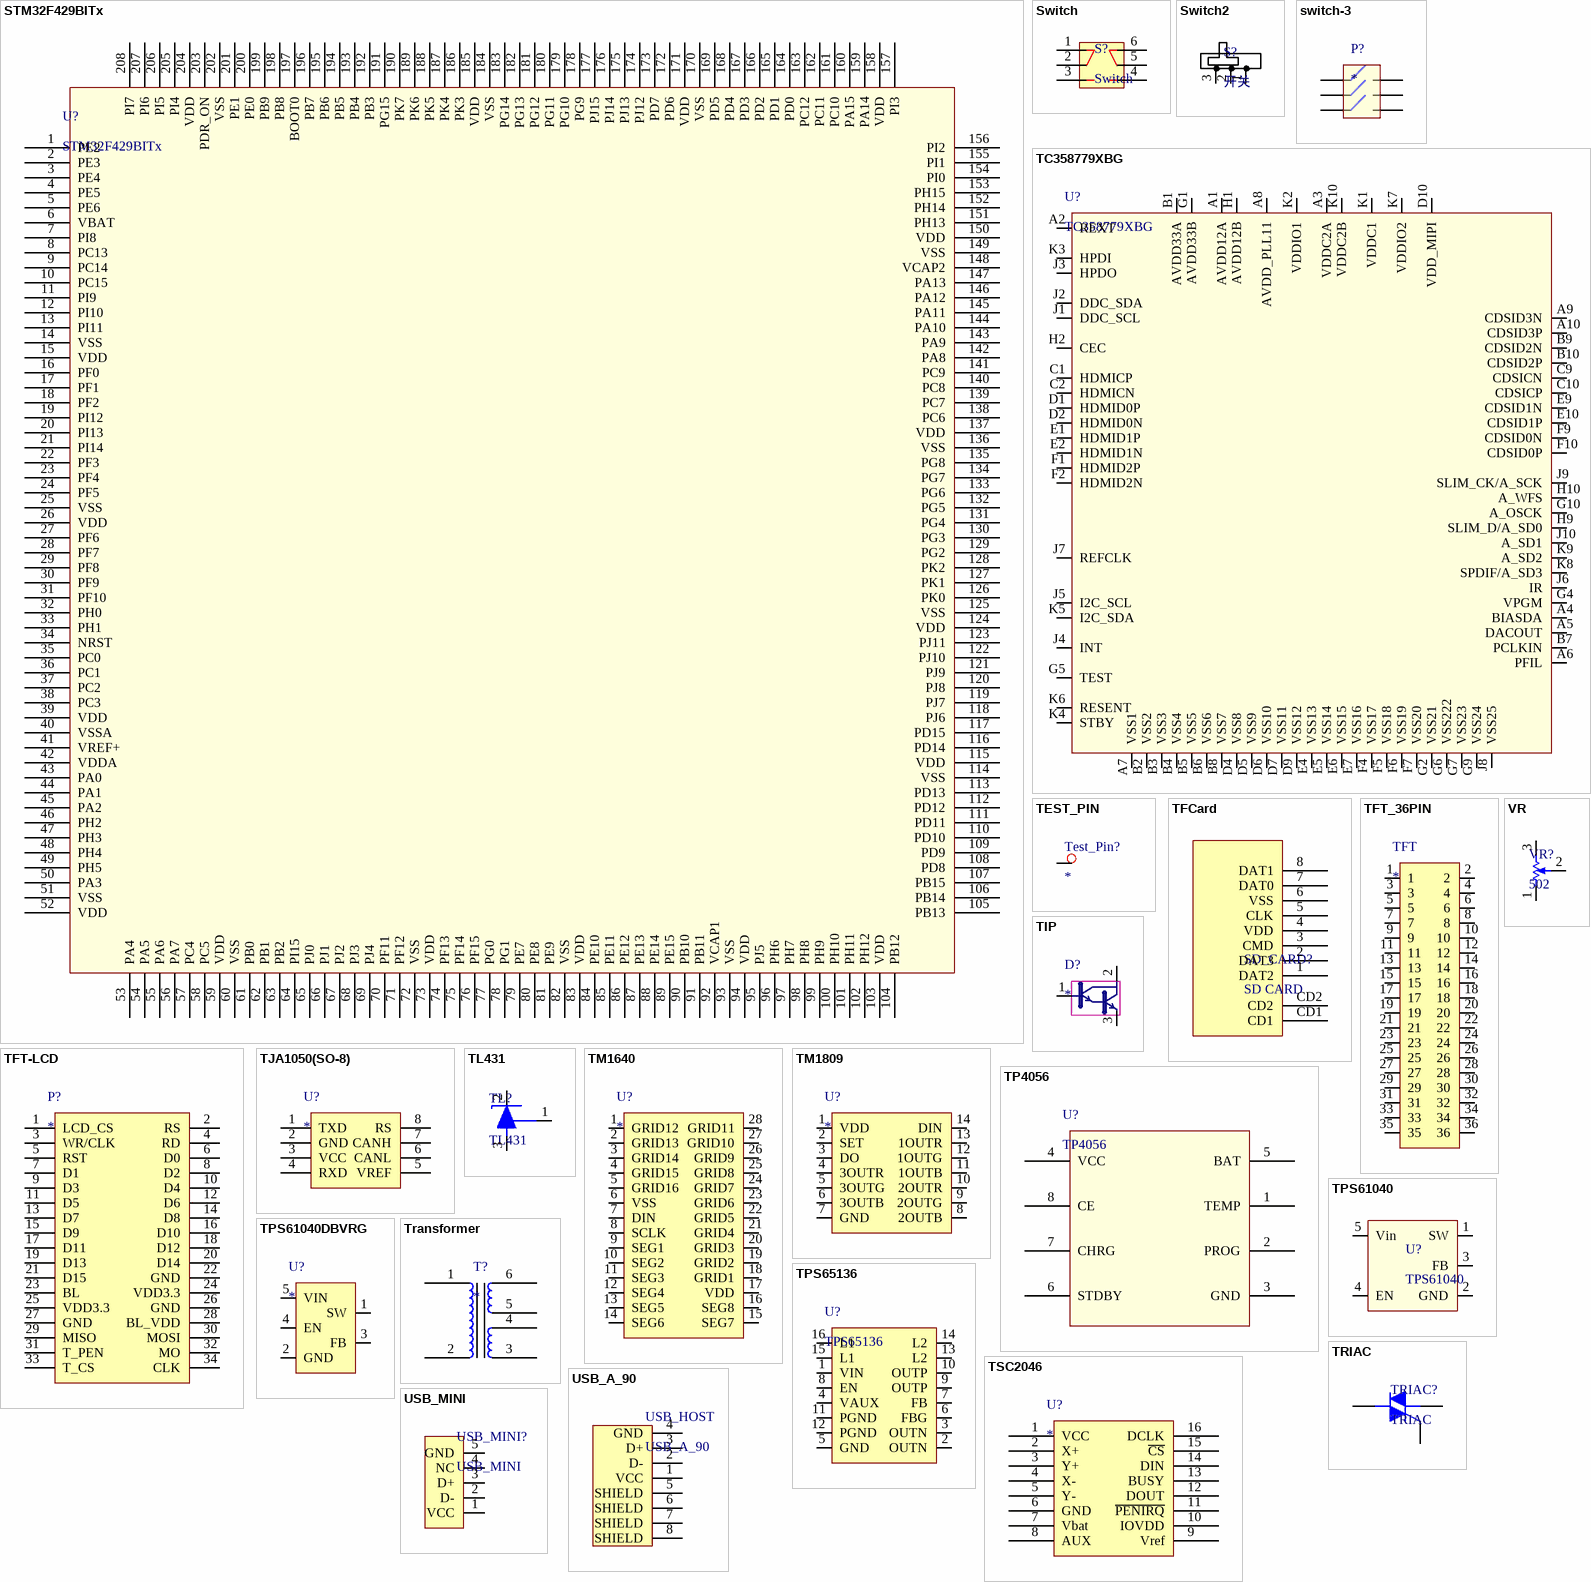
[diagram p4: symbols STM32F429BITx to VR]

## STM32F429BITx
designator U?
footprint LQFP-208_28x28x05P
pins: 1 PE2, 2 PE3, 3 PE4, 4 PE5, 5 PE6, 6 VBAT, 7 PI8, 8 PC13, 9 PC14, 10 PC15, 11 PI9, 12 PI10, 13 PI11, 14 VSS, 15 VDD, 16 PF0, 17 PF1, 18 PF2, 19 PI12, 20 PI13, 21 PI14, 22 PF3, 23 PF4, 24 PF5, 25 VSS, 26 VDD, 27 PF6, 28 PF7, 29 PF8, 30 PF9, 31 PF10, 32 PH0, 33 PH1, 34 NRST, 35 PC0, 36 PC1, 37 PC2, 38 PC3, 39 VDD, 40 VSSA, 41 VREF+, 42 VDDA, 43 PA0, 44 PA1, 45 PA2, 46 PH2, 47 PH3, 48 PH4, 49 PH5, 50 PA3, 51 VSS, 52 VDD, 53 PA4, 54 PA5, 55 PA6, 56 PA7, 57 PC4, 58 PC5, 59 VDD, 60 VSS, 61 PB0, 62 PB1, 63 PB2, 64 PI15, 65 PJ0, 66 PJ1, 67 PJ2, 68 PJ3, 69 PJ4, 70 PF11, 71 PF12, 72 VSS, 73 VDD, 74 PF13, 75 PF14, 76 PF15, 77 PG0, 78 PG1, 79 PE7, 80 PE8, 81 PE9, 82 VSS, 83 VDD, 84 PE10, 85 PE11, 86 PE12, 87 PE13, 88 PE14, 89 PE15, 90 PB10, 91 PB11, 92 VCAP1, 93 VSS, 94 VDD, 95 PJ5, 96 PH6, 97 PH7, 98 PH8, 99 PH9, 100 PH10, 101 PH11, 102 PH12, 103 VDD, 104 PB12, 105 PB13, 106 PB14, 107 PB15, 108 PD8, 109 PD9, 110 PD10, 111 PD11, 112 PD12, 113 PD13, 114 VSS, 115 VDD, 116 PD14, 117 PD15, 118 PJ6, 119 PJ7, 120 PJ8, 121 PJ9, 122 PJ10, 123 PJ11, 124 VDD, 125 VSS, 126 PK0, 127 PK1, 128 PK2, 129 PG2, 130 PG3, 131 PG4, 132 PG5, 133 PG6, 134 PG7, 135 PG8, 136 VSS, 137 VDD, 138 PC6, 139 PC7, 140 PC8, 141 PC9, 142 PA8, 143 PA9, 144 PA10, 145 PA11, 146 PA12, 147 PA13, 148 VCAP2, 149 VSS, 150 VDD, 151 PH13, 152 PH14, 153 PH15, 154 PI0, 155 PI1, 156 PI2, 157 PI3, 158 VDD, 159 PA14, 160 PA15, 161 PC10, 162 PC11, 163 PC12, 164 PD0, 165 PD1, 166 PD2, 167 PD3, 168 PD4, 169 PD5, 170 VSS, 171 VDD, 172 PD6, 173 PD7, 174 PJ12, 175 PJ13, 176 PJ14, 177 PJ15, 178 PG9, 179 PG10, 180 PG11, 181 PG12, 182 PG13, 183 PG14, 184 VSS, 185 VDD, 186 PK3, 187 PK4, 188 PK5, 189 PK6, 190 PK7, 191 PG15, 192 PB3, 193 PB4, 194 PB5, 195 PB6, 196 PB7, 197 BOOT0, 198 PB8, 199 PB9, 200 PE0, 201 PE1, 202 VSS, 203 PDR_ON, 204 VDD, 205 PI4, 206 PI5, 207 PI6, 208 PI7

## Switch
designator S?
自锁开关
footprint Switch
pins: 1, 2, 3, 4, 5, 6

## Switch2
designator S?, comment 开关
footprint SK12D07VG3
footprint SK12D07 (拨动开关)
pins: 1 GND, 2 GND, 3 GND

## switch-3
designator P?
拨码开关
footprint VDG/S-03HG-R
pins: 1, 2, 3, 4, 5, 6

## TC358779XBG
designator U?
footprint TC358779XBG
pins: A1 AVDD12A, A2 REXT, A3 VDDC2A, A4 BIASDA, A5 DACOUT, A6 PFIL, A7 VSS1, A8 AVDD_PLL11, A9 CDSID3N, A10 CDSID3P, B1 AVDD33A, B2 VSS2, B3 VSS3, B4 VSS4, B5 VSS5, B6 VSS6, B7 PCLKIN, B8 VSS7, B9 CDSID2N, B10 CDSID2P, C1 HDMICP, C2 HDMICN, C9 CDSICN, C10 CDSICP, D1 HDMID0P, D2 HDMID0N, D4 VSS8, D5 VSS9, D6 VSS10, D7 VSS11, D9 VSS12, D10 VDD_MIPI, E1 HDMID1P, E2 HDMID1N, E4 VSS13, E5 VSS14, E6 VSS15, E7 VSS16, E9 CDSID1N, E10 CDSID1P, F1 HDMID2P, F2 HDMID2N, F4 VSS17, F5 VSS18, F6 VSS19, F7 VSS20, F9 CDSID0N, F10 CDSID0P, G1 AVDD33B, G2 VSS21, G4 VPGM, G5 TEST, G6 VSS222, G7 VSS23, G9 VSS24, G10 A_OSCK, H1 AVDD12B, H2 CEC, H9 SLIM_D/A_SD0, H10 A_WFS, J1 DDC_SCL, J2 DDC_SDA, J3 HPDO, J4 INT, J5 I2C_SCL, J6 IR, J7 REFCLK , J8 VSS25, J9 SLIM_CK/A_SCK, J10 A_SD1, K1 VDDC1, K2 VDDIO1, K3 HPDI, K4 STBY, K5 I2C_SDA, K6 RESENT, K7 VDDIO2, K8 SPDIF/A_SD3, K9 A_SD2, K10 VDDC2B

## TEST_PIN
designator Test_Pin?
footprint Test_Pin
pins: 1

## TFCard
designator SD_CARD?, comment SD CARD
footprint TFCard
pins: 1 DAT2, 2 DAT3, 3 CMD, 4 VDD, 5 CLK, 6 VSS, 7 DAT0, 8 DAT1, CD1, CD2

## TFT-LCD
designator P?
pins: 1 LCD_CS, 2 RS, 3 WR/CLK, 4 RD, 5 RST, 6 D0, 7 D1, 8 D2, 9 D3, 10 D4, 11 D5, 12 D6, 13 D7, 14 D8, 15 D9, 16 D10, 17 D11, 18 D12, 19 D13, 20 D14, 21 D15, 22 GND, 23 BL, 24 VDD3.3, 25 VDD3.3, 26 GND, 27 GND, 28 BL_VDD, 29 MISO, 30 MOSI, 31 T_PEN, 32 MO, 33 T_CS, 34 CLK

## TFT_36PIN
designator TFT
footprint TFT_36PIN
pins: 1, 2, 3, 4, 5, 6, 7, 8, 9, 10, 11, 12, 13, 14, 15, 16, 17, 18, 19, 20, 21, 22, 23, 24, 25, 26, 27, 28, 29, 30, 31, 32, 33, 34, 35, 36

## TIP
designator D?
功率三极管
footprint TO-220-3L
footprint TO-220-3W
pins: 1 B, 2 C, 3 E

## TJA1050(SO-8)
designator U?
CAN芯片
pins: 1 TXD, 2 GND, 3 VCC, 4 RXD, 5 VREF, 6 CANL, 7 CANH, 8 RS

## TL431
designator TL?
footprint SOT23A (S9015(M6)、S8050(J3Y))
pins: 1, 2, 3

## TM1640
designator U?
LED控制器
footprint TM1640 (SOP, 28-Leads, Body 17.93x7.52mm, Pitch 1.27mm, IPC Medium Density)
pins: 1 GRID12, 2 GRID13, 3 GRID14, 4 GRID15, 5 GRID16, 6 VSS, 7 DIN, 8 SCLK, 9 SEG1, 10 SEG2, 11 SEG3, 12 SEG4, 13 SEG5, 14 SEG6, 15 SEG7, 16 SEG8, 17 VDD, 18 GRID1, 19 GRID2, 20 GRID3, 21 GRID4, 22 GRID5, 23 GRID6, 24 GRID7, 25 GRID8, 26 GRID9, 27 GRID10, 28 GRID11

## TM1809
designator U?
24VLED驱动芯片
footprint SOP14 - duplicate
pins: 1 VDD, 2 SET, 3 DO, 4 3OUTR, 5 3OUTG, 6 3OUTB, 7 GND, 8 2OUTB, 9 2OUTG, 10 2OUTR, 11 1OUTB, 12 1OUTG, 13 1OUTR, 14 DIN

## TP4056
designator U?
1A线性锂电池充电芯片
pins: 1 TEMP, 2 PROG, 3 GND, 4 VCC, 5 BAT, 6 STDBY, 7 CHRG, 8 CE

## TPS61040
designator U?
footprint SOT-23-5L
pins: 1 SW, 2 GND, 3 FB, 4 EN, 5 Vin

## TPS61040DBVRG
designator U?
非稳压负压生成电压源
footprint SOT-23-5L
pins: 1 SW, 2 GND, 3 FB, 4 EN, 5 VIN

## TPS65136
designator U?
footprint TPS65136
pins: 1 VIN, 2 OUTN, 3 OUTN, 4 VAUX, 5 GND, 6 FBG, 7 FB, 8 EN, 9 OUTP, 10 OUTP, 11 PGND, 12 PGND, 13 L2, 14 L2, 15 L1, 16 L1

## Transformer
designator T?
变压器
pins: 1, 2, 3, 4, 5, 6

## TRIAC
designator TRIAC?
footprint TO220A
footprint TO220A - 2
pins: 1 A1, 2 A2, 3 G

## TSC2046
designator U?
电阻触摸芯片
footprint TSSOP16_44MM_065P
pins: 1 VCC, 2 X+, 3 Y+, 4 X-, 5 Y-, 6 GND, 7 Vbat, 8 AUX, 9 Vref, 10 IOVDD, 11 ~{PENIRQ}, 12 DOUT, 13 BUSY, 14 DIN, 15 ~{CS}, 16 DCLK

## USB_A_90
designator USB_HOST
footprint USB_A_90
pins: 1 VCC, 2 D-, 3 D+, 4 GND, 5 SHIELD, 6 SHIELD, 7 SHIELD, 8 SHIELD

## USB_MINI
designator USB_MINI?
footprint USB/SM0.8-6H5 (USB_MINI)
pins: 1 VCC, 2 D-, 3 D+, 4 NC, 5 GND

## VR
designator VR?, comment 502
缺口右，顺时针，12电阻增
footprint VR
pins: 1, 2, 3

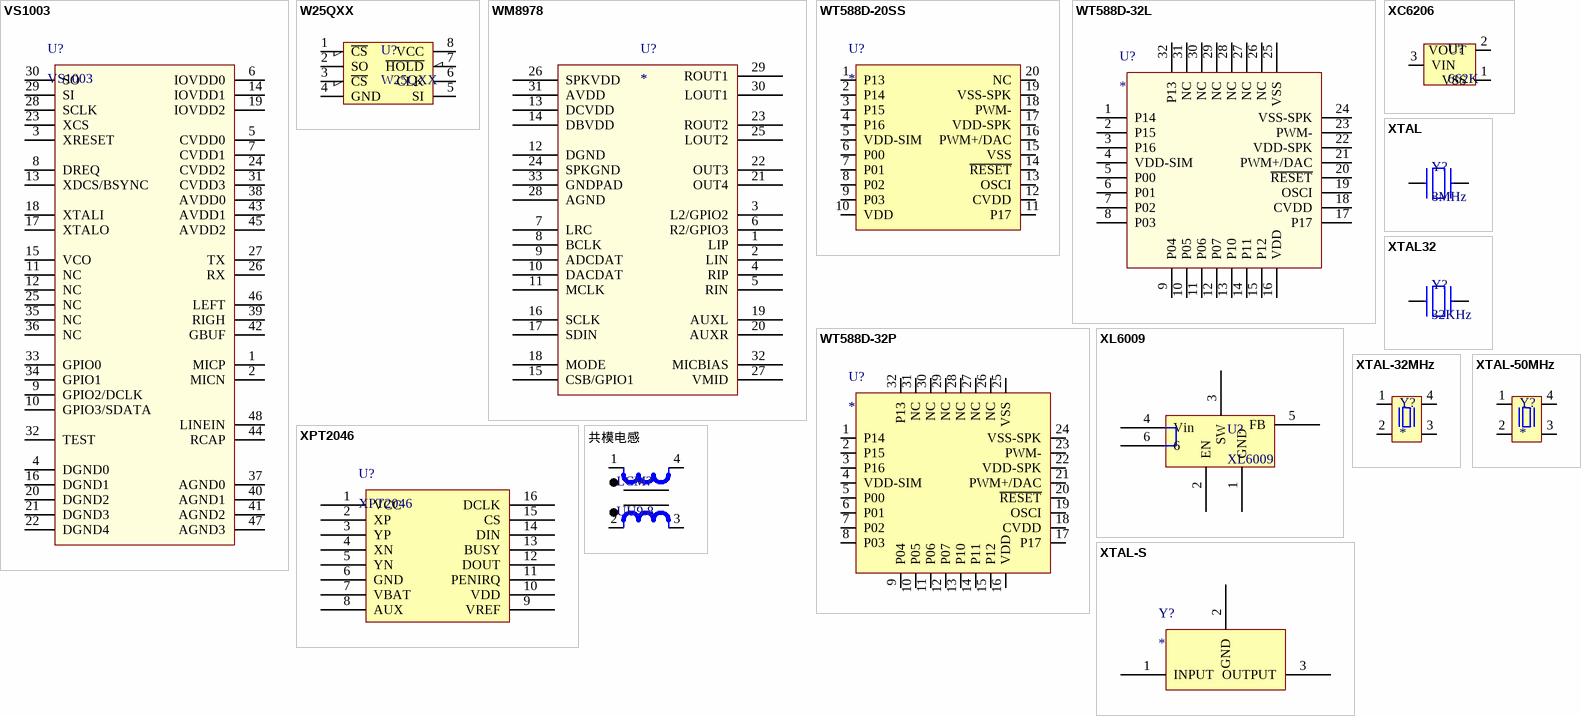
[diagram p5: symbols VS1003 to 共模电感]

## VS1003
designator U?
MP3芯片
footprint LQFP48_7X7X05P
footprint LQFP48_7X7X05P_L
pins: 1 MICP, 2 MICN, 3 XRESET, 4 DGND0, 5 CVDD0, 6 IOVDD0, 7 CVDD1, 8 DREQ, 9 GPIO2/DCLK, 10 GPIO3/SDATA, 11 NC, 12 NC, 13 XDCS/BSYNC, 14 IOVDD1, 15 VCO, 16 DGND1, 17 XTALO, 18 XTALI, 19 IOVDD2, 20 DGND2, 21 DGND3, 22 DGND4, 23 XCS, 24 CVDD2, 25 NC, 26 RX, 27 TX, 28 SCLK, 29 SI, 30 SO, 31 CVDD3, 32 TEST, 33 GPIO0, 34 GPIO1, 35 NC, 36 NC, 37 AGND0, 38 AVDD0, 39 RIGH, 40 AGND1, 41 AGND2, 42 GBUF, 43 AVDD1, 44 RCAP, 45 AVDD2, 46 LEFT, 47 AGND3, 48 LINEIN

## W25QXX
designator U?
SPI_FLASH芯片
footprint W25QXX
pins: 1 ~{CS}, 2 SO, 3 ~{CS}, 4 GND, 5 SI, 6 CLK, 7 ~{HOLD}, 8 VCC

## WM8978
designator U?
pins: 1 LIP, 2 LIN, 3 L2/GPIO2, 4 RIP, 5 RIN, 6 R2/GPIO3, 7 LRC, 8 BCLK, 9 ADCDAT, 10 DACDAT, 11 MCLK, 12 DGND, 13 DCVDD, 14 DBVDD, 15 CSB/GPIO1, 16 SCLK, 17 SDIN, 18 MODE, 19 AUXL, 20 AUXR, 21 OUT4, 22 OUT3, 23 ROUT2, 24 SPKGND, 25 LOUT2, 26 SPKVDD, 27 VMID, 28 AGND, 29 ROUT1, 30 LOUT1, 31 AVDD, 32 MICBIAS, 33 GNDPAD

## WT588D-20SS
designator U?
语音芯片
footprint WT588D-20SS
pins: 1 P13, 2 P14, 3 P15, 4 P16, 5 VDD-SIM, 6 P00, 7 P01, 8 P02, 9 P03, 10 VDD, 11 P17, 12 CVDD, 13 OSCI, 14 ~{RESET}, 15 VSS, 16 PWM+/DAC, 17 VDD-SPK, 18 PWM-, 19 VSS-SPK, 20 NC

## WT588D-32L
designator U?
WT588D-32L
footprint LQFP32
pins: 1 P14, 2 P15, 3 P16, 4 VDD-SIM, 5 P00, 6 P01, 7 P02, 8 P03, 9 P04, 10 P05, 11 P06, 12 P07, 13 P10, 14 P11, 15 P12, 16 VDD, 17 P17, 18 CVDD, 19 OSCI, 20 ~{RESET}, 21 PWM+/DAC, 22 VDD-SPK, 23 PWM-, 24 VSS-SPK, 25 VSS, 26 NC, 27 NC, 28 NC, 29 NC, 30 NC, 31 NC, 32 P13

## WT588D-32P
designator U?
语音芯片
footprint LQFP32
pins: 1 P14, 2 P15, 3 P16, 4 VDD-SIM, 5 P00, 6 P01, 7 P02, 8 P03, 9 P04, 10 P05, 11 P06, 12 P07, 13 P10, 14 P11, 15 P12, 16 VDD, 17 P17, 18 CVDD, 19 OSCI, 20 ~{RESET}, 21 PWM+/DAC, 22 VDD-SPK, 23 PWM-, 24 VSS-SPK, 25 VSS, 26 NC, 27 NC, 28 NC, 29 NC, 30 NC, 31 NC, 32 P13

## XC6206
designator U?, comment 662K
3.3V/0.5A稳压芯片
footprint SOT23A (S9015(M6)、S8050(J3Y))
pins: 1 VSS, 2 VOUT, 3 VIN

## XL6009
designator U?
升压
footprint TO-263
pins: 1 GND, 2 EN, 3 SW, 4 Vin, 5 FB, 6

## XPT2046
designator U?
电阻触摸芯片
footprint TSSOP16
pins: 1 VCC, 2 XP, 3 YP, 4 XN, 5 YN, 6 GND, 7 VBAT, 8 AUX, 9 VREF, 10 VDD, 11 PENIRQ, 12 DOUT, 13 BUSY, 14 DIN, 15 CS, 16 DCLK

## XTAL
designator Y?, comment 8MHz
8M
footprint XTAL (8M)
pins: 1, 2

## XTAL32
designator Y?, comment 32KHz
32.768KHz
footprint XTAL32
footprint 3215
pins: 1, 2

## XTAL-32MHz
designator Y?
32MHz表贴晶振
pins: 1, 2, 3, 4

## XTAL-50MHz
designator Y?
50MHz表贴晶振
footprint 3225-4P (32MHz贴片晶振)
footprint XTAL7050
pins: 1, 2, 3, 4

## XTAL-S
designator Y?
声表面谐振器
footprint XTAL-S (贴片声表面谐振器)
pins: 1 INPUT, 2 GND, 3 OUTPUT

## 共模电感
designator LCM?, comment UU9.8
共模电感
footprint UU9.8
pins: 1, 2, 3, 4